# EAGLE library part HDMI_SMT (library SHC)
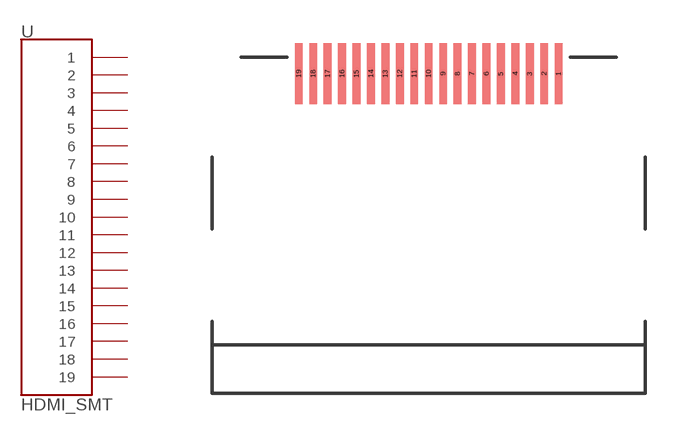
[diagram p42: symbol with the pads of HDMI_SMT; footprint HDMI_SMT]

Designator prefix -

## HDMI_SMT  [HDMI_SMT]
1  1
2  2
3  3
4  4
5  5
6  6
7  7
8  8
9  9
10  10
11  11
12  12
13  13
14  14
15  15
16  16
17  17
18  18
19  19

## Footprint HDMI_SMT (pad centres in mm)
smd 0.27 x 2.11: 1 4.5,4.73; 2 4,4.73; 3 3.5,4.73; 4 3,4.73; 5 2.5,4.73; 6 2,4.73; 7 1.5,4.73; 8 1,4.73; 9 0.5,4.73; 10 0,4.73; 11 -0.5,4.73; 12 -1,4.73; 13 -1.5,4.73; 14 -2,4.73; 15 -2.5,4.73; 16 -3,4.73; 17 -3.5,4.73; 18 -4,4.73; 19 -4.5,4.73